# Altium schematic symbol library 稳压二极管.SchLib: 2 symbols
Pins are listed as number, name and electrical type; pins without a type are passive.

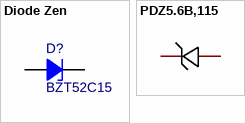
[diagram p0: symbols Diode Zen to PDZ5.6B,115]

## Diode Zen
designator D?, comment BZT52C15
稳压二极管 齐纳二极管  Zener Diode; Published: 8-Jun-2000; Revision: July-2002: Re-released for DXP Platform.; Publisher: Altium Limited; Price(RMB): 0.000
footprint DIODE-0.7 (Zener Diode; 2 Leads)
footprint DIODE-0.4
footprint SOD-87[LL-41] (MELF Diode, 2-Leads, Body 5.00x2.49mm, IPC Medium Density)
footprint CD4521-1808
footprint SOD-80[LL-34] (MELF Diode, 2-Leads, Body 3.55x1.65mm, IPC Medium Density)
footprint SOD-123-FL (SOD Diode;2.70mm W X 1.60mm L X 1.35mm H body)
footprint SOD-123-L (SOD Diode;2.70mm W X 1.60mm L X 1.35mm H body)
footprint SOD-123-M (SOD Diode;2.70mm W X 1.60mm L X 1.35mm H body)
footprint SOD-323 (SOD Diode;1.65mm W X 1.24mm L X 1.16mm H body)
footprint SOD-523-L (SODFL Diode;1.20mm W X 0.80mm L X 0.70mm H body)
footprint SOD-523-M (SODFL Diode;1.20mm W X 0.80mm L X 0.70mm H body)
pins: A, K

## PDZ5.6B,115
designator D??  (value not drawn)
Manufacturer: Nexperia(安世); Add into BOM: yes; Diode Configuration: 独立式; Zener Voltage (Range): 5.48V~5.73V; Tolerance: ±2%; Power Dissipation: 400mW; Reverse Leakage Current (Ir): 1uA@2.5V; Zener Impedance (Zzt): 50Ω; Name: PDZ5.6B,115; Symbol: PDZ5.6B,115; Device: PDZ5.6B,115; LCSC Part Name: ±2% 400mW; Supplier Part: C74713; Manufacturer Part: PDZ5.6B,115; Supplier Footprint: SOD-323; JLCPCB Part Class: Extended Part; Datasheet: https://atta.szlcsc.com/upload/public/pdf/source/20171113/C74713_15105616254011116100.pdf; Supplier: LCSC; Convert to PCB: yes; Zener Voltage (Nom): -
footprint LL-34_L3.4-W1.5-RD
footprint SOD-123-L (SOD Diode;2.70mm W X 1.60mm L X 1.35mm H body)
footprint SOD-323 (SOD Diode;1.65mm W X 1.24mm L X 1.16mm H body)
footprint SOD-323_L1.7-W1.3-LS2.5-FD
footprint SOD-323_L1.8-W1.3-LS2.5-RD
pins: 1 K, 2 A